# EAGLE library part IFTRANSFORMER (library cliffords)
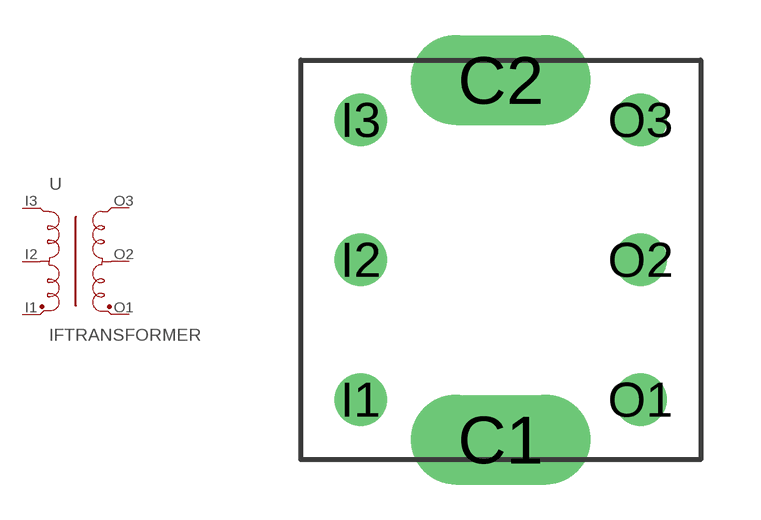
[diagram p2: symbol with the pads of RFTRANSFORMER; footprint RFTRANSFORMER]

Designator prefix -

## IFTRANSFORMER  [RFTRANSFORMER]
I1  1  pas
I2  2  pas
I3  3  pas
O1  4  pas
O2  5  pas
O3  6  pas

## Footprint RFTRANSFORMER (pad centres in mm)
drill 1.5 long: C1 0,-4.5; C2 0,4.5
drill 0.8: I1 -3.5,-3.5; I2 -3.5,0; I3 -3.5,3.5; O1 3.5,-3.5; O2 3.5,0; O3 3.5,3.5